# Altium footprint library DO-41.PcbLib: 1 footprints
Each footprint in its own frame and in the unit in brackets; x right, y up, seen from the top. Pads: shape width x height; smd on the part's side, far side on the other; paste and mask are expansions set on the pad; w line width, h text height; cw(c..) or ccw(c..) is an arc to the next point about the centre after c.
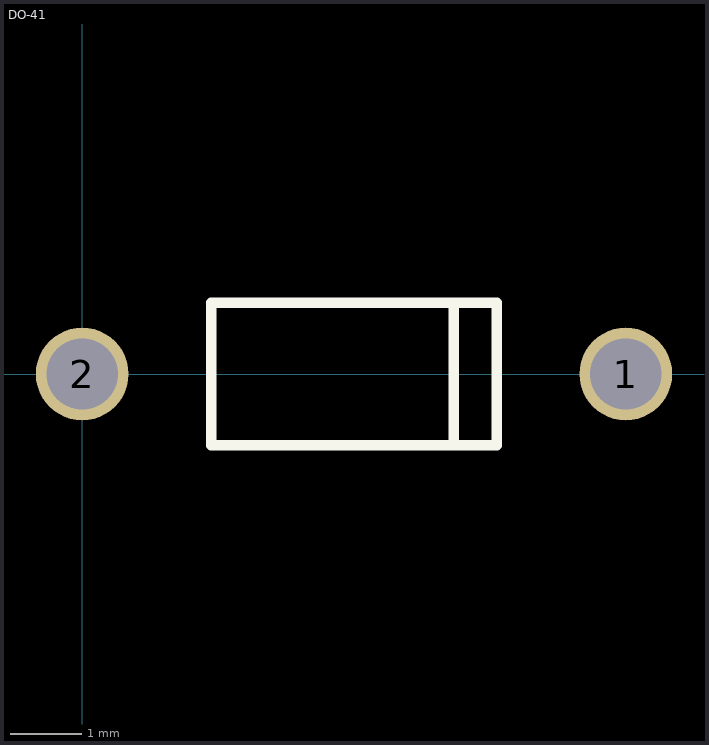
[diagram p0: the footprint, top view; thin cyan lines are the x and y axes]

## DO-41 [mm]
pads (2):
  round 1.3 hole 1: 1(7.62,0) 2(0,0)
Top Overlay:
  lines w0.15: 5.207,-1 5.207,1 ; 1.81,-1 5.81,-1 5.81,1 1.81,1 1.81,-1